# Altium footprint library PCB_Library_V№6.PcbLib: 4 footprints
Each footprint in its own frame and in the unit in brackets; x right, y up, seen from the top. Pads: shape width x height; smd on the part's side, far side on the other; paste and mask are expansions set on the pad; w line width, h text height; cw(c..) or ccw(c..) is an arc to the next point about the centre after c.
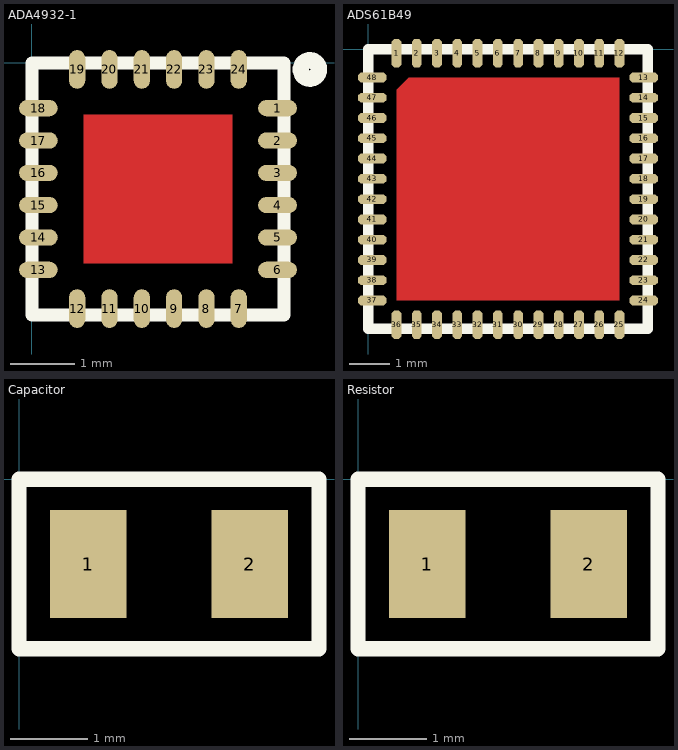
[diagram p0: the footprints below, top view; thin cyan lines are the x and y axes]

## ADA4932-1 [mm] "ADA4932-1"
height 1
pads (24):
  oval 0.6x0.25 smd: 1(3.8,-0.7) 2(3.8,-1.2) 3(3.8,-1.7) 4(3.8,-2.2) 5(3.8,-2.7) 6(3.8,-3.2) 13(0.1,-3.2) 14(0.1,-2.7) 15(0.1,-2.2) 16(0.1,-1.7) 17(0.1,-1.2) 18(0.1,-0.7)
  oval 0.25x0.6 smd: 7(3.2,-3.8) 8(2.7,-3.8) 9(2.2,-3.8) 10(1.7,-3.8) 11(1.2,-3.8) 12(0.7,-3.8) 19(0.7,-0.1) 20(1.2,-0.1) 21(1.7,-0.1) 22(2.2,-0.1) 23(2.7,-0.1) 24(3.2,-0.1)
Top Layer:
  rectangle: 0.8,-3.1 3.1,-0.8
Top Overlay:
  circle w0.254: c4.3,-0.1 r0.141
  lines w0.2: 0,-3.9 0,0 3.9,0 3.9,-3.9 0,-3.9

## ADS61B49 [mm] "ADS61B49"
height 1
pads (48):
  oct 0.24x0.7 smd: 1(0.7,-0.1) 2(1.2,-0.1) 3(1.7,-0.1) 4(2.2,-0.1) 5(2.7,-0.1) 6(3.2,-0.1) 7(3.7,-0.1) 8(4.2,-0.1) 9(4.7,-0.1) 10(5.2,-0.1) 11(5.7,-0.1) 12(6.2,-0.1) 25(6.2,-6.8) 26(5.7,-6.8) 27(5.2,-6.8) 28(4.7,-6.8) 29(4.2,-6.8) 30(3.7,-6.8) 31(3.2,-6.8) 32(2.7,-6.8) 33(2.2,-6.8) 34(1.7,-6.8) 35(1.2,-6.8) 36(0.7,-6.8)
  oct 0.7x0.24 smd: 13(6.8,-0.7) 14(6.8,-1.2) 15(6.8,-1.7) 16(6.8,-2.2) 17(6.8,-2.7) 18(6.8,-3.2) 19(6.8,-3.7) 20(6.8,-4.2) 21(6.8,-4.7) 22(6.8,-5.2) 23(6.8,-5.7) 24(6.8,-6.2) 37(0.1,-6.2) 38(0.1,-5.7) 39(0.1,-5.2) 40(0.1,-4.7) 41(0.1,-4.2) 42(0.1,-3.7) 43(0.1,-3.2) 44(0.1,-2.7) 45(0.1,-2.2) 46(0.1,-1.7) 47(0.1,-1.2) 48(0.1,-0.7)
Top Layer:
  region: 0.7,-6.2 6.2,-6.2 6.2,-0.7 1,-0.7 0.7,-1
Top Overlay:
  lines w0.254: 6.9,0 6.9,0 ; 6.9,0 0,0 0,-6.9 6.9,-6.9 6.9,0

## Capacitor [mm] "C?"
height 1
pads (2):
  rect 1x1.4 smd: 1(0.9,-1.1) 2(3,-1.1)
Top Overlay:
  lines w0.2: 0,-2.2 3.9,-2.2 3.9,0 0,0 0,-2.2

## Resistor [mm] "R?"
height 1
pads (2):
  rect 1x1.4 smd: 1(0.9,-1.1) 2(3,-1.1)
Top Overlay:
  lines w0.2: 0,-2.2 3.9,-2.2 3.9,0 0,0 0,-2.2